# Altium footprint library IPC-7353 SOP_80P_N.PcbLib: 1 footprints
Each footprint in its own frame and in the unit in brackets; x right, y up, seen from the top. Pads: shape width x height; smd on the part's side, far side on the other; paste and mask are expansions set on the pad; w line width, h text height; cw(c..) or ccw(c..) is an arc to the next point about the centre after c.
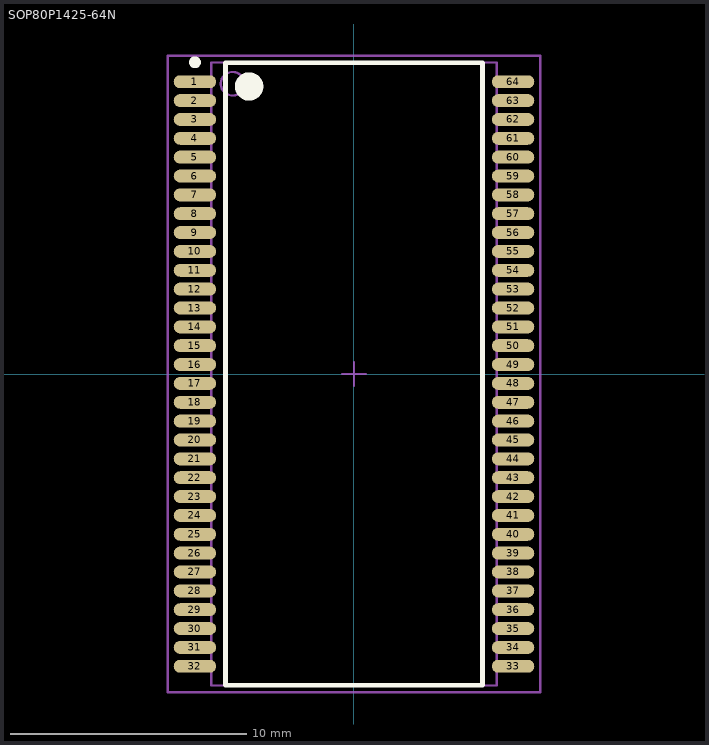
[diagram p0: the footprint, top view; thin cyan lines are the x and y axes]

## SOP80P1425-64N [mm] "SOP, 64-Leads, Body 26.4x12.1mm, Pitch 0.8mm, IPC Medium Density"
height 2.38
pads (64):
  oval 1.8x0.55 smd: 1(-6.75,12.4) 2(-6.75,11.6) 3(-6.75,10.8) 4(-6.75,10) 5(-6.75,9.2) 6(-6.75,8.4) 7(-6.75,7.6) 8(-6.75,6.8) 9(-6.75,6) 10(-6.75,5.2) 11(-6.75,4.4) 12(-6.75,3.6) 13(-6.75,2.8) 14(-6.75,2) 15(-6.75,1.2) 16(-6.75,0.4) 17(-6.75,-0.4) 18(-6.75,-1.2) 19(-6.75,-2) 20(-6.75,-2.8) 21(-6.75,-3.6) 22(-6.75,-4.4) 23(-6.75,-5.2) 24(-6.75,-6) 25(-6.75,-6.8) 26(-6.75,-7.6) 27(-6.75,-8.4) 28(-6.75,-9.2) 29(-6.75,-10) 30(-6.75,-10.8) 31(-6.75,-11.6) 32(-6.75,-12.4) 33(6.75,-12.4) 34(6.75,-11.6) 35(6.75,-10.8) 36(6.75,-10) 37(6.75,-9.2) 38(6.75,-8.4) 39(6.75,-7.6) 40(6.75,-6.8) 41(6.75,-6) 42(6.75,-5.2) 43(6.75,-4.4) 44(6.75,-3.6) 45(6.75,-2.8) 46(6.75,-2) 47(6.75,-1.2) 48(6.75,-0.4) 49(6.75,0.4) 50(6.75,1.2) 51(6.75,2) 52(6.75,2.8) 53(6.75,3.6) 54(6.75,4.4) 55(6.75,5.2) 56(6.75,6) 57(6.75,6.8) 58(6.75,7.6) 59(6.75,8.4) 60(6.75,9.2) 61(6.75,10) 62(6.75,10.8) 63(6.75,11.6) 64(6.75,12.4)
Top Overlay:
  circle w0.25: c-6.75,13.225 r0.125
  circle w0.6: c-4.45,12.2 r0.3
  lines w0.2: -5.45,-13.2 -5.45,13.2 5.45,13.2 5.45,-13.2 -5.45,-13.2
Mechanical 13:
  circle w0.1: c-5.15,12.315 r0.5
  lines w0.1: -6.05,-13.215 -6.05,13.215 6.05,13.215 6.05,-13.215 -6.05,-13.215
Mechanical 15:
  lines w0.1: -0.5,0 0.5,0 ; 0,-0.5 0,0.5 ; -7.9,-13.5 -7.9,13.5 7.9,13.5 7.9,-13.5 -7.9,-13.5
3D body: height 2.38, standoff 0, extent -6.05,-13.215 6.05,13.215